# Altium schematic symbol library NHD-12864WG-BTMI-V#N.SchLib: 1 symbol
Pins are listed as number, name and electrical type; pins without a type are passive.

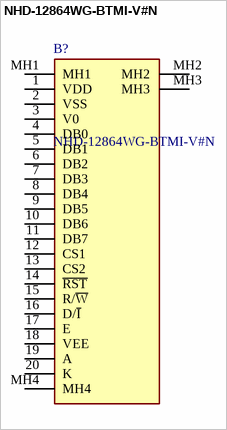
[diagram p0: symbol NHD-12864WG-BTMI-V#N]

## NHD-12864WG-BTMI-V#N
designator B?
LCD MOD GRAPH 128X64 WH TRANSM; Manufacturer_Name: Newhaven Display; Geometry.Height: 8.9mm; Manufacturer_Part_Number: NHD-12864WG-BTMI-V#N; Mouser Part Number: 763-12864WG-BTMI-VN; Mouser Price/Stock: https://www.mouser.co.uk/ProductDetail/Newhaven-Display/NHD-12864WG-BTMI-VN?qs=Vb5qD4CGh4lOc3Gh14yA5A%3D%3D; Arrow Part Number: *; Arrow Price/Stock: *; Datasheet Link: http://www.newhavendisplay.com/specs/NHD-12864WG-BTMI-VN.pdf
footprint NHD12864WGBTMIVN
pins: 1 VDD, 2 VSS, 3 V0, 4 DB0, 5 DB1, 6 DB2, 7 DB3, 8 DB4, 9 DB5, 10 DB6, 11 DB7, 12 CS1, 13 CS2, 14 ~{RST}, 15 R/~{W}, 16 D/~{I}, 17 E, 18 VEE, 19 A, 20 K, MH1, MH2, MH3, MH4